# Altium footprint library QMAP_LOGO.PcbLib: 1 footprints
Each footprint in its own frame and in the unit in brackets; x right, y up, seen from the top. Pads: shape width x height; smd on the part's side, far side on the other; paste and mask are expansions set on the pad; w line width, h text height; cw(c..) or ccw(c..) is an arc to the next point about the centre after c.
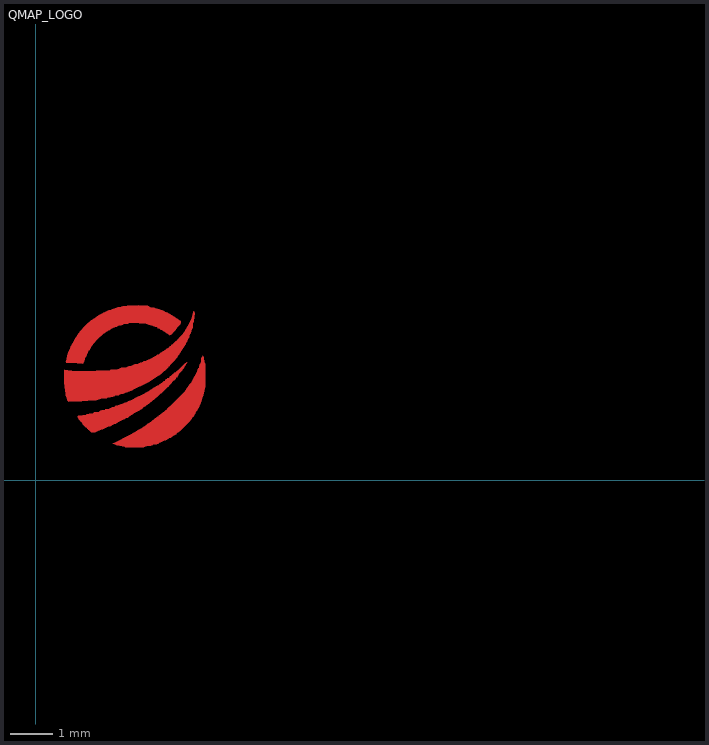
[diagram p0: the footprint, top view; thin cyan lines are the x and y axes]

## QMAP_LOGO [mm]
Top Layer:
  region: 3.254,2.352 3.213,2.312 3.205,2.296 3.141,2.231 3.133,2.215 3.089,2.171 3.073,2.163 2.953,2.043 2.937,2.035 2.873,1.971 2.857,1.963 2.817,1.923 2.801,1.915 2.785,1.899 2.744,1.875 2.72,1.851 2.704,1.843 2.672,1.811 2.656,1.803 2.632,1.779 2.592,1.755 2.576,1.738 2.536,1.714 2.52,1.698 2.48,1.674 2.424,1.634 2.312,1.57 2.288,1.546 2.256,1.538 2.231,1.514 2.191,1.498 2.167,1.474 2.135,1.466 2.087,1.434 2.047,1.418 1.959,1.37 1.919,1.354 1.879,1.33 1.839,1.314 1.751,1.274 1.726,1.266 1.67,1.241 1.582,1.201 1.55,1.193 1.51,1.169 1.446,1.153 1.406,1.129 1.35,1.121 1.31,1.129 1.286,1.153 1.27,1.161 1.241,1.181 1.233,1.197 1.209,1.213 1.201,1.229 1.173,1.249 1.161,1.262 1.157,1.274 1.141,1.282 1.121,1.31 1.089,1.342 1.081,1.358 1.049,1.39 1.041,1.406 1.025,1.422 1.017,1.438 0.985,1.486 0.993,1.502 1.005,1.514 1.109,1.522 1.181,1.53 1.205,1.554 1.262,1.562 1.35,1.57 1.374,1.594 1.494,1.61 1.518,1.634 1.55,1.642 1.622,1.65 1.638,1.666 1.67,1.674 1.734,1.682 1.775,1.706 1.807,1.714 1.855,1.722 1.879,1.746 1.947,1.759 1.999,1.787 2.047,1.795 2.095,1.827 2.143,1.835 2.183,1.859 2.247,1.883 2.384,1.947 2.424,1.971 2.464,1.987 2.504,2.011 2.64,2.083 2.696,2.115 2.712,2.131 2.785,2.171 2.865,2.219 2.881,2.227 2.905,2.252 2.921,2.26 2.977,2.3 2.993,2.308 3.017,2.332 3.045,2.344 3.053,2.36 3.093,2.384 3.101,2.4 3.149,2.416 3.157,2.432 3.169,2.444 3.185,2.452 3.225,2.492 3.241,2.5 3.266,2.524 3.282,2.532 3.326,2.568 3.338,2.58 3.354,2.588 3.37,2.604 3.386,2.612 3.402,2.636 3.418,2.644 3.522,2.748 3.538,2.757 3.55,2.769 3.554,2.781 3.566,2.777 3.558,2.753 3.542,2.736 3.51,2.68 3.494,2.664 3.47,2.624 3.43,2.568 3.394,2.524 3.382,2.512 3.35,2.456 3.33,2.428 3.314,2.42 3.302,2.408 3.294,2.392 3.258,2.356
  region: 0.664,2.368 0.672,2.584 0.684,2.596 0.748,2.588 0.773,2.58 0.853,2.572 1.406,2.564 1.43,2.572 1.726,2.58 1.767,2.596 1.799,2.604 1.927,2.612 1.971,2.624 2.015,2.644 2.119,2.652 2.191,2.684 2.264,2.692 2.336,2.724 2.392,2.732 2.464,2.765 2.504,2.773 2.544,2.797 2.576,2.805 2.753,2.885 2.769,2.893 2.841,2.933 2.857,2.949 2.909,2.969 2.929,2.989 2.985,3.021 3.061,3.073 3.089,3.093 3.105,3.109 3.145,3.133 3.161,3.149 3.177,3.157 3.209,3.189 3.225,3.197 3.298,3.27 3.31,3.274 3.318,3.29 3.33,3.302 3.346,3.31 3.386,3.358 3.43,3.402 3.438,3.418 3.462,3.442 3.47,3.458 3.486,3.474 3.494,3.49 3.55,3.57 3.558,3.586 3.582,3.626 3.614,3.682 3.662,3.787 3.67,3.819 3.694,3.899 3.71,3.971 3.722,3.983 3.734,3.971 3.742,3.939 3.726,3.738 3.702,3.682 3.694,3.602 3.686,3.57 3.67,3.554 3.662,3.522 3.654,3.466 3.622,3.418 3.614,3.362 3.582,3.314 3.574,3.274 3.55,3.249 3.53,3.197 3.518,3.185 3.478,3.113 3.37,2.949 3.35,2.929 3.342,2.913 3.318,2.889 3.31,2.873 3.274,2.829 3.245,2.801 3.237,2.785 3.165,2.712 3.157,2.696 3.145,2.684 3.133,2.68 3.125,2.664 3.073,2.612 3.057,2.604 2.993,2.54 2.977,2.532 2.945,2.5 2.929,2.492 2.913,2.476 2.897,2.468 2.785,2.388 2.744,2.364 2.688,2.332 2.672,2.316 2.536,2.243 2.336,2.147 2.247,2.107 2.215,2.099 2.159,2.075 2.127,2.067 2.055,2.035 1.995,2.023 1.959,2.003 1.927,1.995 1.863,1.987 1.847,1.971 1.815,1.963 1.759,1.955 1.71,1.947 1.67,1.931 1.638,1.923 1.53,1.911 1.462,1.891 1.43,1.883 1.221,1.875 1.197,1.867 1.081,1.855 0.773,1.851 0.736,1.879 0.724,1.947 0.708,1.987 0.7,2.019 0.692,2.123 0.684,2.187 0.676,2.227 0.668,2.276 0.664,2.36
  region: 3.161,0.993 3.057,0.937 3.017,0.921 2.945,0.889 2.913,0.881 2.897,0.873 2.881,0.857 2.849,0.849 2.785,0.841 2.744,0.817 2.712,0.809 2.6,0.801 2.544,0.777 2.488,0.769 2.111,0.777 2.071,0.793 2.039,0.801 1.983,0.809 1.911,0.817 1.855,0.841 1.819,0.861 1.831,0.873 1.863,0.881 1.887,0.889 2.183,1.041 2.223,1.065 2.336,1.129 2.408,1.169 2.496,1.225 2.512,1.233 2.528,1.249 2.584,1.282 2.6,1.298 2.64,1.322 2.72,1.378 2.736,1.386 2.761,1.41 2.777,1.418 2.793,1.434 2.809,1.442 2.853,1.478 2.865,1.49 2.881,1.498 2.913,1.53 2.929,1.538 2.953,1.562 2.993,1.586 3.009,1.602 3.025,1.61 3.065,1.65 3.081,1.658 3.097,1.682 3.113,1.69 3.145,1.722 3.161,1.73 3.193,1.763 3.209,1.771 3.398,1.959 3.406,1.975 3.438,2.007 3.446,2.023 3.462,2.031 3.47,2.047 3.51,2.087 3.518,2.103 3.542,2.127 3.55,2.143 3.63,2.256 3.638,2.272 3.662,2.296 3.726,2.408 3.767,2.48 3.783,2.52 3.807,2.56 3.823,2.6 3.831,2.632 3.847,2.648 3.855,2.68 3.863,2.728 3.879,2.744 3.895,2.785 3.903,2.881 3.919,2.897 3.939,2.933 3.951,2.921 3.959,2.889 3.967,2.785 3.991,2.728 3.999,2.456 3.991,2.183 3.983,2.159 3.967,2.103 3.959,2.047 3.951,1.999 3.927,1.943 3.915,1.891 3.887,1.823 3.879,1.791 3.847,1.742 3.839,1.702 3.815,1.678 3.807,1.646 3.799,1.63 3.775,1.606 3.759,1.566 3.742,1.55 3.714,1.498 3.698,1.49 3.67,1.446 3.614,1.374 3.582,1.342 3.574,1.326 3.442,1.193 3.426,1.185 3.394,1.153 3.378,1.145 3.354,1.121 3.338,1.113 3.318,1.101 3.31,1.085 3.266,1.057 3.209,1.025 3.185,1.001 3.165,0.997
  region: 1.185,2.913 1.169,2.897 1.145,2.801 1.101,2.74 0.977,2.753 0.881,2.761 0.72,2.769 0.704,2.785 0.712,2.809 0.728,2.849 0.74,2.925 0.757,2.965 0.769,3.001 0.777,3.033 0.809,3.105 0.829,3.157 0.841,3.169 0.857,3.209 0.865,3.225 0.905,3.298 0.929,3.338 0.937,3.354 0.953,3.37 0.961,3.386 1.013,3.462 1.033,3.482 1.041,3.498 1.077,3.542 1.089,3.554 1.097,3.57 1.113,3.578 1.121,3.594 1.213,3.686 1.229,3.694 1.27,3.734 1.286,3.742 1.31,3.767 1.326,3.775 1.438,3.855 1.454,3.863 1.51,3.895 1.526,3.911 1.578,3.931 1.59,3.943 1.63,3.959 1.718,3.999 1.751,4.007 1.807,4.031 1.871,4.047 1.927,4.071 2.011,4.083 2.051,4.099 2.159,4.111 2.432,4.119 2.456,4.111 2.64,4.103 2.696,4.079 2.789,4.067 2.817,4.055 2.857,4.039 2.909,4.027 2.937,4.015 2.977,3.999 3.029,3.979 3.041,3.967 3.105,3.943 3.145,3.919 3.258,3.855 3.414,3.738 3.422,3.714 3.414,3.69 3.39,3.666 3.382,3.65 3.358,3.626 3.35,3.61 3.314,3.566 3.294,3.538 3.27,3.514 3.266,3.502 3.249,3.494 3.229,3.474 3.225,3.462 3.209,3.454 3.197,3.442 3.189,3.426 3.153,3.414 3.109,3.45 3.045,3.49 3.001,3.518 2.985,3.534 2.941,3.546 2.913,3.574 2.873,3.582 2.857,3.598 2.817,3.614 2.777,3.622 2.761,3.638 2.704,3.654 2.656,3.662 2.6,3.686 2.44,3.694 2.416,3.702 2.191,3.694 2.167,3.686 2.063,3.678 2.047,3.662 2.015,3.654 1.951,3.646 1.903,3.614 1.855,3.606 1.807,3.574 1.775,3.566 1.726,3.534 1.702,3.526 1.678,3.502 1.622,3.47 1.578,3.434 1.566,3.422 1.55,3.414 1.526,3.39 1.51,3.382 1.418,3.29 1.41,3.274 1.394,3.266 1.386,3.249 1.354,3.217 1.33,3.177 1.314,3.161 1.29,3.121 1.258,3.065 1.241,3.049 1.229,3.005 1.209,2.985 1.185,2.921
  text "UNIFEI" at 5.254,0.754 h1.52
  text "QMAP" at 5.254,2.754 h1.52
Top Solder:
  rectangle: 0,0 15,5